# Altium integrated library CRGCQ0805F120R (1).IntLib: 1 symbol
Pins are listed as number, name and electrical type; pins without a type are passive.

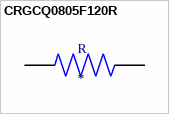
[diagram p0: symbol CRGCQ0805F120R]

## CRGCQ0805F120R
designator R
Fixed Resistor CRGCQ 0805 120R 1%; MP: CRGCQ0805F120R; MF: TE Connectivity; SnapEDA_Link: https://www.snapeda.com/parts/CRGCQ0805F120R/TE%20Connectivity/view-part/3187861/?ref=snap; Availability: Unavailable; TE_purchase_URL: https://www.te.com/usa-en/product-1-2176341-4.html?te_bu=Cor&te_type=disp&te_campaign=seda_glo_cor-seda-global-disp-prtnr-fy19-seda-model-bom-cta_sma-317_1&elqCampaignId=32493; Price: None; Value: *; Package: 2012 TE Connectivity
footprint RESC2012X65N
pins: 1, 2